# Altium schematic symbol library Schlib.SchLib: 4 symbols
Pins are listed as number, name and electrical type; pins without a type are passive.

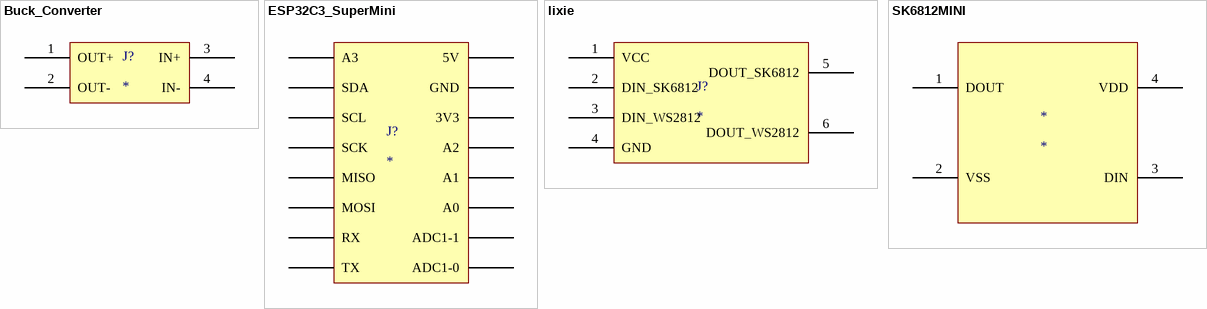
[diagram p0: symbols Buck_Converter to SK6812MINI]

## Buck_Converter
designator J?
footprint Buck_Converter
pins: 1 OUT+, 2 OUT-, 3 IN+, 4 IN-

## ESP32C3_SuperMini
designator J?
footprint ESP32C3_SuperMini
pins: 0 ADC1-0, 1 ADC1-1, 2 A0, 3 A1, 3V3, 4 A2, 5 A3, 5V, 6 SDA, 7 SCL, 8 SCK, 9 MISO, 10 MOSI, 20 RX, 21 TX, GND

## lixie
designator J?
footprint Lixie
pins: 1 VCC, 2 DIN_SK6812, 3 DIN_WS2812, 4 GND, 5 DOUT_SK6812, 6 DOUT_WS2812

## SK6812MINI
designator *
3535
footprint SK6812MINI (SMD LED 3535)
pins: 1 DOUT, 2 VSS, 3 DIN, 4 VDD